# Altium footprint library HTSSOP-14.PcbLib: 1 footprints
Each footprint in its own frame and in the unit in brackets; x right, y up, seen from the top. Pads: shape width x height; smd on the part's side, far side on the other; paste and mask are expansions set on the pad; w line width, h text height; cw(c..) or ccw(c..) is an arc to the next point about the centre after c.
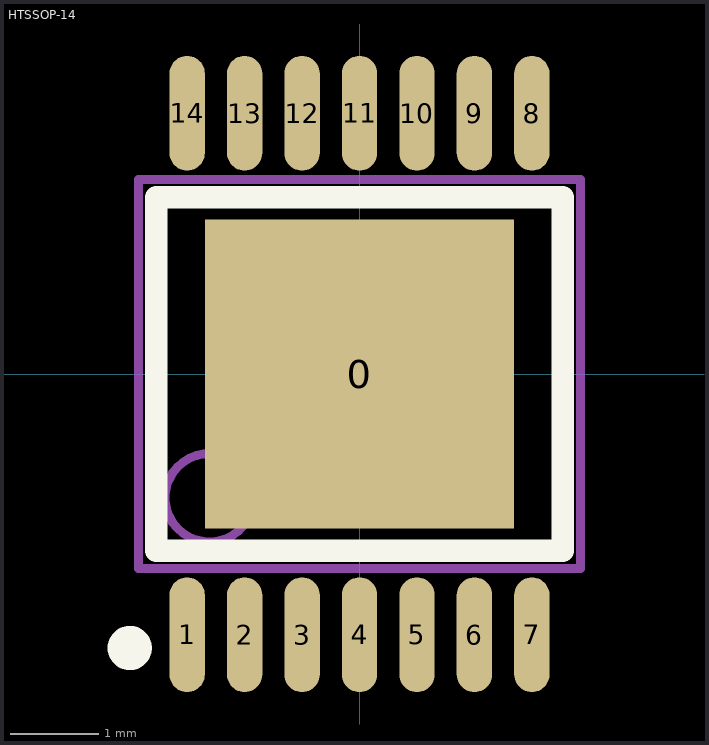
[diagram p0: the footprint, top view; thin cyan lines are the x and y axes]

## HTSSOP-14 [mm]
pads (15):
  rect 3.5x3.5 smd mask+0.051: 0(0,0)
  oval 0.4x1.3 smd mask+0.051: 1(-1.95,-2.95) 2(-1.3,-2.95) 3(-0.65,-2.95) 4(0,-2.95) 5(0.65,-2.95) 6(1.3,-2.95) 7(1.95,-2.95) 8(1.95,2.95) 9(1.3,2.95) 10(0.65,2.95) 11(0,2.95) 12(-0.65,2.95) 13(-1.3,2.95) 14(-1.95,2.95)
Top Overlay:
  circle w0.25: c-2.6,-3.1 r0.125
  lines w0.254: -2.3,-2 2.3,-2 2.3,2 -2.3,2 -2.3,-2
Mechanical 13:
  circle w0.1: c-1.7,-1.4 r0.5
  lines w0.1: -2.5,-2.2 2.5,-2.2 2.5,2.2 -2.5,2.2 -2.5,-2.2